# Altium footprint library IC[6pin,5pin,3pin](footprint).PcbLib: 3 footprints
Each footprint in its own frame and in the unit in brackets; x right, y up, seen from the top. Pads: shape width x height; smd on the part's side, far side on the other; paste and mask are expansions set on the pad; w line width, h text height; cw(c..) or ccw(c..) is an arc to the next point about the centre after c.
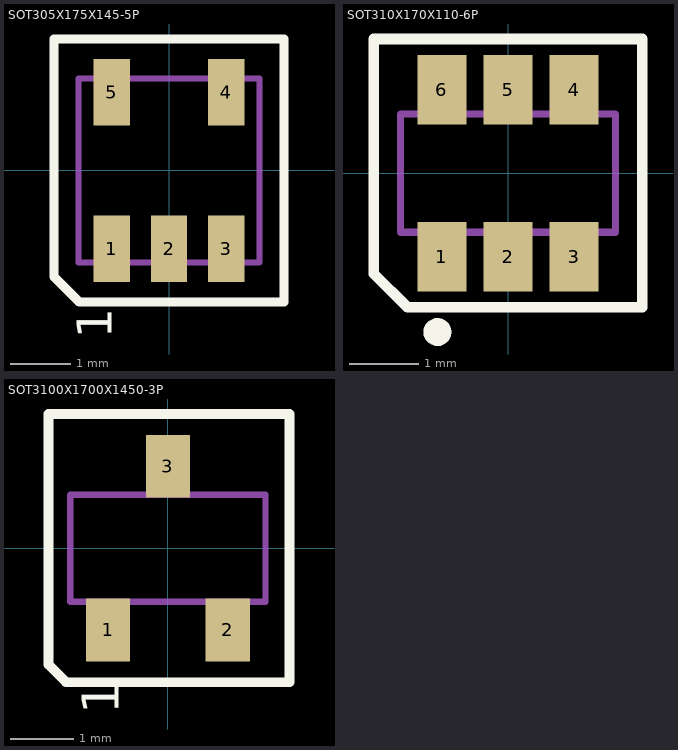
[diagram p0: the footprints below, top view; thin cyan lines are the x and y axes]

## SOT305X175X145-5P [mm] "IC BUF NON-INVERT 5.5V SOT23-5"
height 1.45
pads (5):
  rect 0.6x1.1 smd mask+0.07: 1(-0.95,-1.3) 2(0,-1.3) 3(0.95,-1.3) 4(0.95,1.3) 5(-0.95,1.3)
Top Overlay:
  lines w0.152: 0.226,2.18 -1.906,2.18 ; -1.906,2.18 -1.906,-1.763 -1.489,-2.18 1.906,-2.18 1.906,2.18 0,2.18 -1.906,2.18
  text "1" at -0.762,-2.794 h1
Mechanical 13:
  lines w0.102: -1.5,-1.525 -1.5,1.525 1.5,1.525 1.5,-1.525 -1.5,-1.525
  text "5" at -0.773,1.204 h0.5
  text "4" at 1.119,1.185 h0.5
  text "3" at 1.113,-1.348 h0.5
  text "1" at -0.795,-1.376 h0.5
  text "Designator" at -1.016,-0.033 h0.5
3D body "DBV0005A.stp": height 1.2, standoff 0, extent -1.45,-1.4 1.45,1.4

## SOT310X170X110-6P [mm] "IC BUFFER NON-INVERT 5.5V SC88"
height 1.1
pads (6):
  rect 0.7x1 smd mask+0.076: 1(-0.95,-1.2) 2(0,-1.2) 3(0.95,-1.2) 4(0.95,1.2) 5(0,1.2) 6(-0.95,1.2)
Top Overlay:
  circle w0.2: c-1.016,-2.286 r0.1
  lines w0.152: -1.931,-1.447 -1.931,1.931 1.931,1.931 1.931,-1.931 -1.447,-1.931 -1.931,-1.447
Mechanical 13:
  lines w0.102: -1.55,-0.85 -1.55,0.85 1.55,0.85 1.55,-0.85 -1.55,-0.85
  text ".Designator" at -1.123,-0.117 h0.5
3D body "TSOP6_1P70X3P10_ONS.step": height 1.09, standoff 0, extent -1.549,-1.499 1.549,1.499

## SOT3100X1700X1450-3P [mm] "IC REG LINEAR 3V 250MA SOT23-3"
height 1.45
pads (3):
  rect 0.7x1 smd mask+0.076: 1(-0.95,-1.3) 2(0.95,-1.3) 3(0,1.3)
Top Overlay:
  lines w0.152: -1.898,-1.851 -1.898,2.13 1.931,2.13 1.931,-2.13 -1.62,-2.13 -1.898,-1.851
  text "1" at -0.59,-2.636 h1
Mechanical 13:
  lines w0.102: -1.55,-0.85 1.55,-0.85 1.55,0.85 -1.55,0.85 -1.55,-0.85
  text "Designator" at -1.252,-0.081 h0.5
  text "1" at -0.747,-1.412 h0.5
  text "2" at 1.15,-1.401 h0.5
  text "3" at 0.19,1.193 h0.5
3D body "AP2138N-3.0TRG1.step": height 1.45, standoff 0, extent -1.48,-1.413 1.48,1.412